# Altium integrated library CERAMIC-1UF-10V-10_-X5R_0402_.IntLib: 1 symbol
Pins are listed as number, name and electrical type; pins without a type are passive.

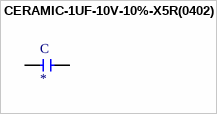
[diagram p0: symbol CERAMIC-1UF-10V-10%-X5R(0402)]

## CERAMIC-1UF-10V-10%-X5R(0402)
designator C
1ÂµF Â±10% 10V Ceramic Capacitor X5R 0402 _1005 Metric_; MP: CC0402KRX5R6BB105; MF: Yageo; Value: *; Package: 0402 Yageo; SnapEDA_Link: https://www.snapeda.com/parts/CC0402KRX5R6BB105/Yageo/view-part/105546/?ref=snap; Price: None; Availability: Unavailable
footprint C0402
pins: 1, 2